# Altium schematic symbol library 集成块.SchLib: 135 symbols
Pins are listed as number, name and electrical type; pins without a type are passive.

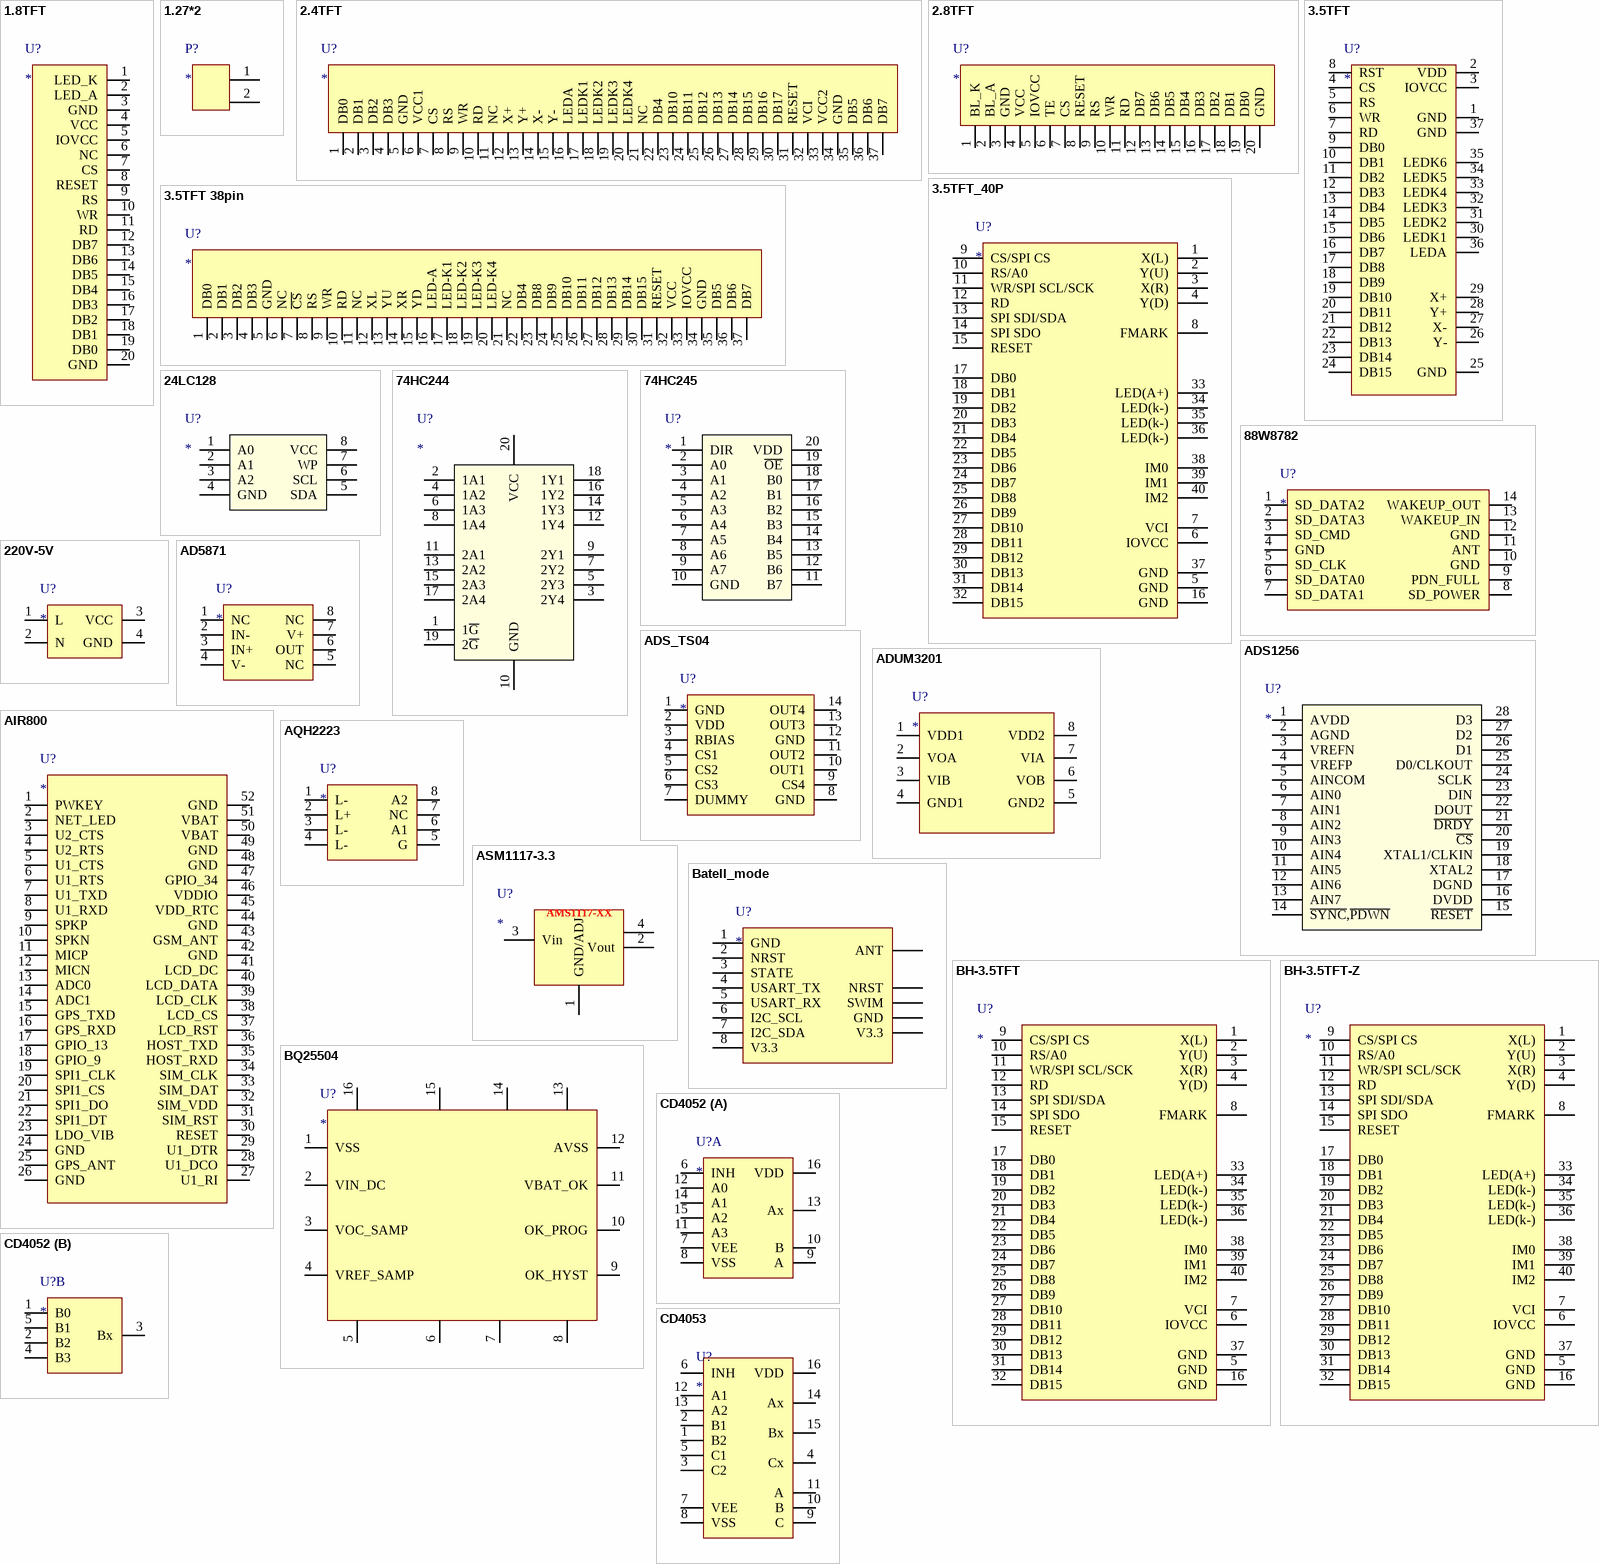
[diagram p0: symbols 1.8TFT to CD4053]

## 1.8TFT
designator U?
footprint 1.8TFT
pins: 1 LED_K, 2 LED_A, 3 GND, 4 VCC, 5 IOVCC, 6 NC, 7 CS, 8 RESET, 9 RS, 10 WR, 11 RD, 12 DB7, 13 DB6, 14 DB5, 15 DB4, 16 DB3, 17 DB2, 18 DB1, 19 DB0, 20 GND

## 1.27*2
designator P?
footprint 1.27-2
pins: 1, 2

## 2.4TFT
designator U?
footprint 2.4TFT
pins: 1 DB0, 2 DB1, 3 DB2, 4 DB3, 5 GND, 6 VCC1, 7 CS, 8 RS, 9 WR, 10 RD, 11 NC, 12 X+, 13 Y+, 14 X-, 15 Y-, 16 LEDA, 17 LEDK1, 18 LEDK2, 19 LEDK3, 20 LEDK4, 21 NC, 22 DB4, 23 DB10, 24 DB11, 25 DB12, 26 DB13, 27 DB14, 28 DB15, 29 DB16, 30 DB17, 31 RESET, 32 VCI, 33 VCC2, 34 GND, 35 DB5, 36 DB6, 37 DB7

## 2.8TFT
designator U?
footprint 2.8TFT
pins: 1 BL_K, 2 BL_A, 3 GND, 4 VCC, 5 IOVCC, 6 TE, 7 CS, 8 RESET, 9 RS, 10 WR, 11 RD, 12 DB7, 13 DB6, 14 DB5, 15 DB4, 16 DB3, 17 DB2, 18 DB1, 19 DB0, 20 GND

## 3.5TFT
designator U?
pins: 1 GND, 2 VDD, 3 IOVCC, 4 CS, 5 RS, 6 WR, 7 RD, 8 RST, 9 DB0, 10 DB1, 11 DB2, 12 DB3, 13 DB4, 14 DB5, 15 DB6, 16 DB7, 17 DB8, 18 DB9, 19 DB10, 20 DB11, 21 DB12, 22 DB13, 23 DB14, 24 DB15, 25 GND, 26 Y-, 27 X-, 28 Y+, 29 X+, 30 LEDK1, 31 LEDK2, 32 LEDK3, 33 LEDK4, 34 LEDK5, 35 LEDK6, 36 LEDA, 37 GND

## 3.5TFT 38pin
designator U?
footprint 3.5TFT-38PIN
pins: 1 DB0, 2 DB1, 3 DB2, 4 DB3, 5 GND, 6 NC, 7 ~{CS}, 8 RS, 9 WR, 10 RD, 11 NC, 12 XL, 13 YU, 14 XR, 15 YD, 16 LED-A, 17 LED-K1, 18 LED-K2, 19 LED-K3, 20 LED-K4, 21 NC, 22 DB4, 23 DB8, 24 DB9, 25 DB10, 26 DB11, 27 DB12, 28 DB13, 29 DB14, 30 DB15, 31 RESET, 32 VCC, 33 IOVCC, 34 GND, 35 DB5, 36 DB6, 37 DB7

## 3.5TFT_40P
designator U?
footprint FPC-40-0.5MM
pins: 1 X(L), 2 Y(U), 3 X(R), 4 Y(D), 5 GND, 6 IOVCC, 7 VCI, 8 FMARK, 9 CS/SPI CS, 10 RS/A0, 11 WR/SPI SCL/SCK, 12 RD, 13 SPI SDI/SDA, 14 SPI SDO, 15 RESET, 16 GND, 17 DB0, 18 DB1, 19 DB2, 20 DB3, 21 DB4, 22 DB5, 23 DB6, 24 DB7, 25 DB8, 26 DB9, 27 DB10, 28 DB11, 29 DB12, 30 DB13, 31 DB14, 32 DB15, 33 LED(A+), 34 LED(k-), 35 LED(k-), 36 LED(k-), 37 GND, 38 IM0, 39 IM1, 40 IM2

## 24LC128
designator U?
footprint SOP-8
pins: 1 A0, 2 A1, 3 A2, 4 GND, 5 SDA, 6 SCL, 7 WP, 8 VCC

## 74HC244
designator U?
footprint SOIC-20W
pins: 1 1~{G}, 2 1A1, 3 2Y4, 4 1A2, 5 2Y3, 6 1A3, 7 2Y2, 8 1A4, 9 2Y1, 10 GND, 11 2A1, 12 1Y4, 13 2A2, 14 1Y3, 15 2A3, 16 1Y2, 17 2A4, 18 1Y1, 19 2~{G}, 20 VCC

## 74HC245
designator U?
footprint SOIC-20W
pins: 1 DIR, 2 A0, 3 A1, 4 A2, 5 A3, 6 A4, 7 A5, 8 A6, 9 A7, 10 GND, 11 B7, 12 B6, 13 B5, 14 B4, 15 B3, 16 B2, 17 B1, 18 B0, 19 ~{OE}, 20 VDD

## 88W8782
designator U?
footprint 88W8782
pins: 1 SD_DATA2, 2 SD_DATA3, 3 SD_CMD, 4 GND, 5 SD_CLK, 6 SD_DATA0, 7 SD_DATA1, 8 SD_POWER, 9 PDN_FULL, 10 GND, 11 ANT, 12 GND, 13 WAKEUP_IN, 14 WAKEUP_OUT

## 220V-5V
designator U?
footprint 22V-5V
pins: 1 L, 2 N, 3 VCC, 4 GND

## AD5871
designator U?
footprint SOP-8
pins: 1 NC, 2 IN-, 3 IN+, 4 V-, 5 NC, 6 OUT, 7 V+, 8 NC

## ADS1256
designator U?
footprint SSOP-28
pins: 1 AVDD, 2 AGND, 3 VREFN, 4 VREFP, 5 AINCOM, 6 AIN0, 7 AIN1, 8 AIN2, 9 AIN3, 10 AIN4, 11 AIN5, 12 AIN6, 13 AIN7, 14 ~{SYNC},~{PDWN}, 15 ~{RESET}, 16 DVDD, 17 DGND, 18 XTAL2, 19 XTAL1/CLKIN, 20 ~{CS}, 21 ~{DRDY}, 22 DOUT, 23 DIN, 24 SCLK, 25 D0/CLKOUT, 26 D1, 27 D2, 28 D3

## ADS_TS04
designator U?
footprint SOP-14
pins: 1 GND, 2 VDD, 3 RBIAS, 4 CS1, 5 CS2, 6 CS3, 7 DUMMY, 8 GND, 9 CS4, 10 OUT1, 11 OUT2, 12 GND, 13 OUT3, 14 OUT4

## ADUM3201
designator U?
footprint SOP-8
pins: 1 VDD1, 2 VOA, 3 VIB, 4 GND1, 5 GND2, 6 VOB, 7 VIA, 8 VDD2

## AIR800
designator U?
footprint AIR800
pins: 1 PWKEY, 2 NET_LED, 3 U2_CTS, 4 U2_RTS, 5 U1_CTS, 6 U1_RTS, 7 U1_TXD, 8 U1_RXD, 9 SPKP, 10 SPKN, 11 MICP, 12 MICN, 13 ADC0, 14 ADC1, 15 GPS_TXD, 16 GPS_RXD, 17 GPIO_13, 18 GPIO_9, 19 SPI1_CLK, 20 SPI1_CS, 21 SPI1_DO, 22 SPI1_DT, 23 LDO_VIB, 24 GND, 25 GPS_ANT, 26 GND, 27 U1_RI, 28 U1_DCO, 29 U1_DTR, 30 RESET, 31 SIM_RST, 32 SIM_VDD, 33 SIM_DAT, 34 SIM_CLK, 35 HOST_RXD, 36 HOST_TXD, 37 LCD_RST, 38 LCD_CS, 39 LCD_CLK, 40 LCD_DATA, 41 LCD_DC, 42 GND, 43 GSM_ANT, 44 GND, 45 VDD_RTC, 46 VDDIO, 47 GPIO_34, 48 GND, 49 GND, 50 VBAT, 51 VBAT, 52 GND

## AQH2223
designator U?
footprint DIP-8
pins: 1 L-, 2 L+, 3 L-, 4 L-, 5 G, 6 A1, 7 NC, 8 A2

## ASM1117-3.3
designator U?
footprint 1117-3.3
pins: 1 GND/ADJ, 2 Vout, 3 Vin, 4
text: AMS1117-XX

## Batell_mode
designator U?
footprint Batell
pins: 1 GND, 2 NRST, 3 STATE, 4 USART_TX, 5 USART_RX, 6 I2C_SCL, 7 I2C_SDA, 8 V3.3, ANT, GND, NRST, SWIM, V3.3

## BH-3.5TFT
designator U?
footprint BH-3.5TFT
pins: 1 X(L), 2 Y(U), 3 X(R), 4 Y(D), 5 GND, 6 IOVCC, 7 VCI, 8 FMARK, 9 CS/SPI CS, 10 RS/A0, 11 WR/SPI SCL/SCK, 12 RD, 13 SPI SDI/SDA, 14 SPI SDO, 15 RESET, 16 GND, 17 DB0, 18 DB1, 19 DB2, 20 DB3, 21 DB4, 22 DB5, 23 DB6, 24 DB7, 25 DB8, 26 DB9, 27 DB10, 28 DB11, 29 DB12, 30 DB13, 31 DB14, 32 DB15, 33 LED(A+), 34 LED(k-), 35 LED(k-), 36 LED(k-), 37 GND, 38 IM0, 39 IM1, 40 IM2

## BH-3.5TFT-Z
designator U?
footprint BH-3.5TFT-Z
pins: 1 X(L), 2 Y(U), 3 X(R), 4 Y(D), 5 GND, 6 IOVCC, 7 VCI, 8 FMARK, 9 CS/SPI CS, 10 RS/A0, 11 WR/SPI SCL/SCK, 12 RD, 13 SPI SDI/SDA, 14 SPI SDO, 15 RESET, 16 GND, 17 DB0, 18 DB1, 19 DB2, 20 DB3, 21 DB4, 22 DB5, 23 DB6, 24 DB7, 25 DB8, 26 DB9, 27 DB10, 28 DB11, 29 DB12, 30 DB13, 31 DB14, 32 DB15, 33 LED(A+), 34 LED(k-), 35 LED(k-), 36 LED(k-), 37 GND, 38 IM0, 39 IM1, 40 IM2

## BQ25504
designator U?
footprint QFN-16
pins: 1 VSS, 2 VIN_DC, 3 VOC_SAMP, 4 VREF_SAMP, 5 OT_PROG, 6 VBA_OV, 7 VRDIV, 8 VBAT_UV, 9 OK_HYST, 10 OK_PROG, 11 VBAT_OK, 12 AVSS, 13 VSS, 14 VBAT, 15 VSTOR, 16 LBST

## CD4052
designator U?
footprint SOIC-16
part A pins: 6 INH, 7 VEE, 8 VSS, 9 A, 10 B, 11 A3, 12 A0, 13 Ax, 14 A1, 15 A2, 16 VDD
part B pins: 1 B0, 2 B2, 3 Bx, 4 B3, 5 B1

## CD4053
designator U?
footprint SOIC-16
pins: 1 B2, 2 B1, 3 C2, 4 Cx, 5 C1, 6 INH, 7 VEE, 8 VSS, 9 C, 10 B, 11 A, 12 A1, 13 A2, 14 Ax, 15 Bx, 16 VDD

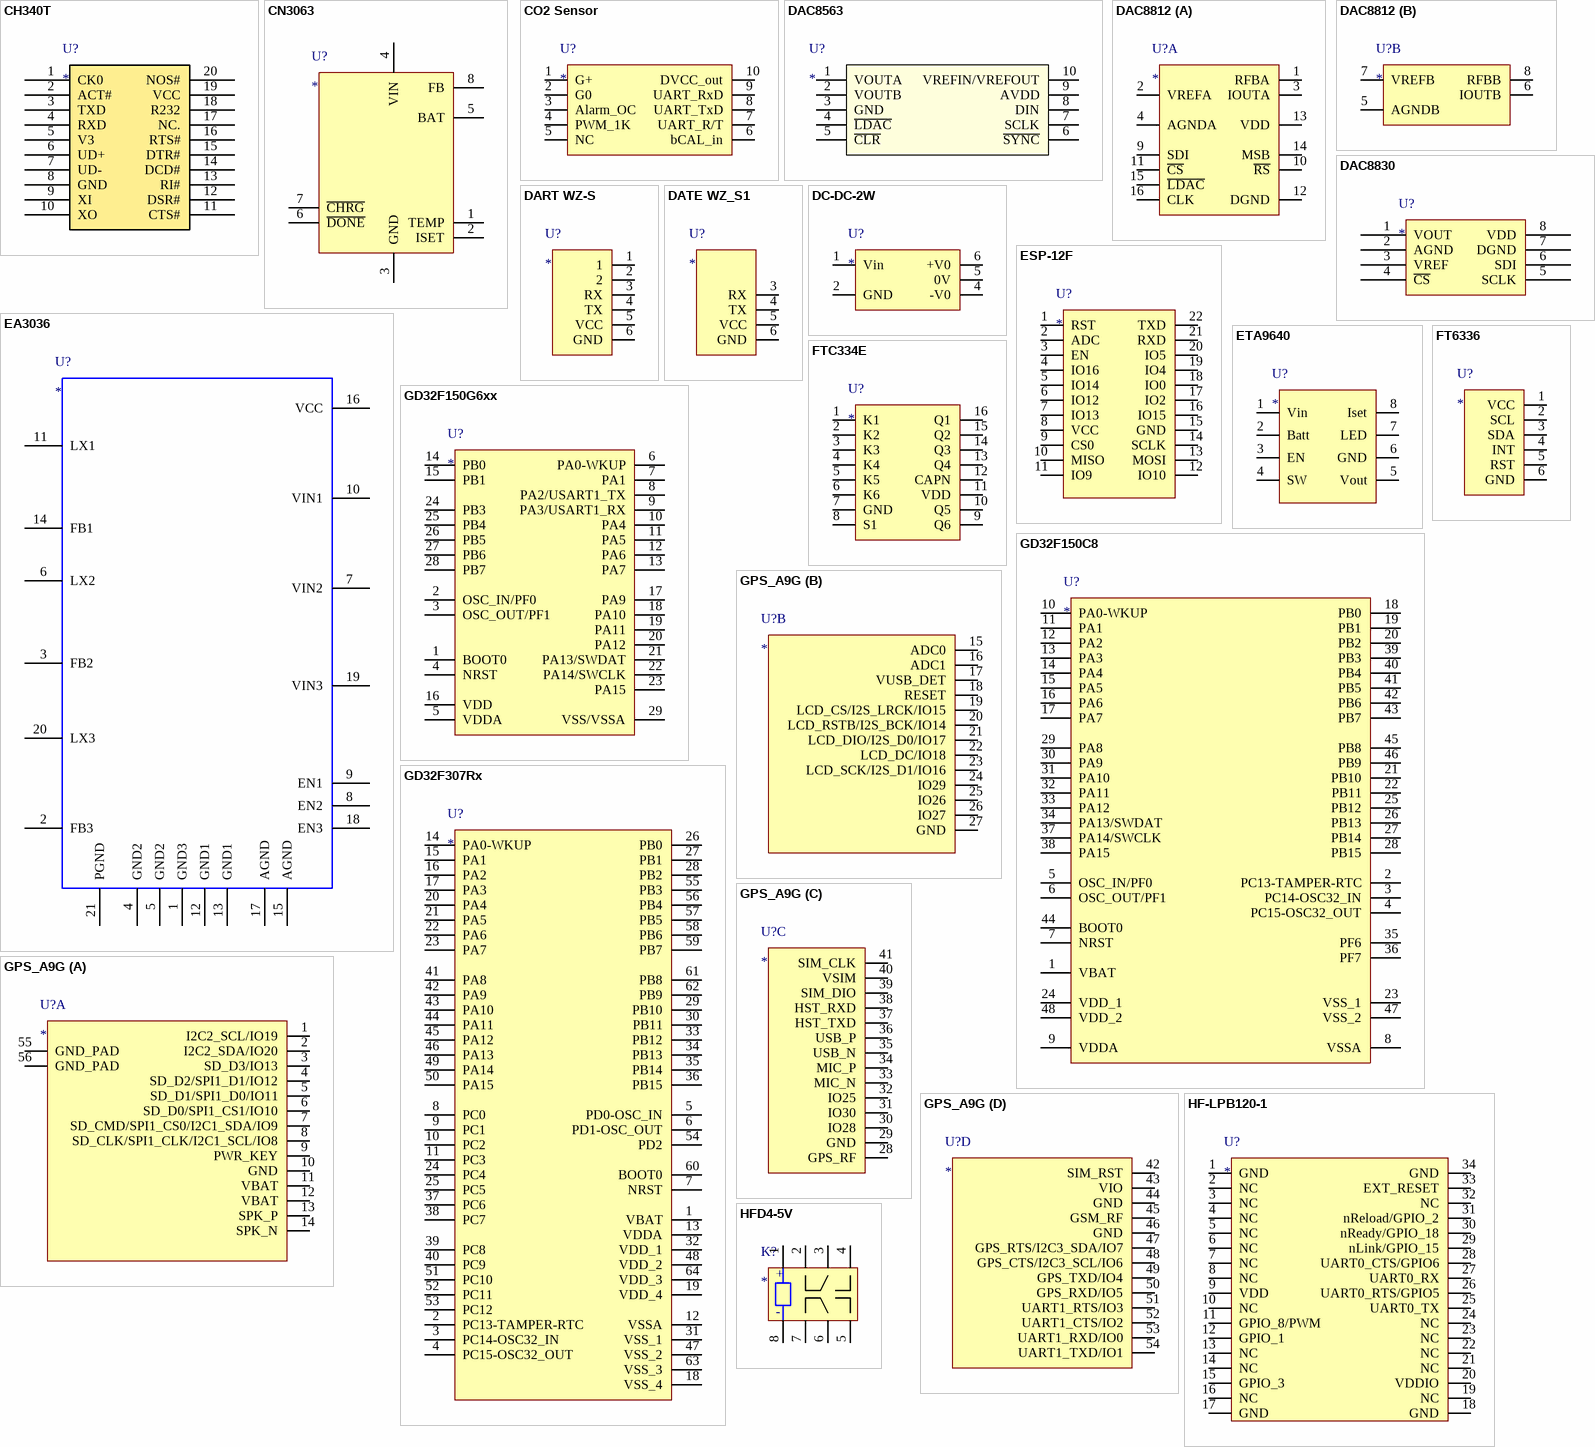
[diagram p1: symbols CH340T to HFD4-5V]

## CH340T
designator U?
footprint SSOP-20
pins: 1 CK0, 2 ACT#, 3 TXD, 4 RXD, 5 V3, 6 UD+, 7 UD-, 8 GND, 9 XI, 10 XO, 11 CTS#, 12 DSR#, 13 RI#, 14 DCD#, 15 DTR#, 16 RTS#, 17 NC., 18 R232, 19 VCC, 20 NOS#

## CN3063
designator U?
footprint SOP-8
pins: 1 TEMP, 2 ISET, 3 GND, 4 VIN, 5 BAT, 6 ~{DONE}, 7 ~{CHRG}, 8 FB

## CO2 Sensor
designator U?
footprint CO2 Sensor
footprint Model Name (Model Description)
footprint CO2_Sensor1
pins: 1 G+, 2 G0, 3 Alarm_OC, 4 PWM_1K, 5 NC, 6 bCAL_in, 7 UART_R/T, 8 UART_TxD, 9 UART_RxD, 10 DVCC_out

## DAC8563
designator U?
footprint SSOP-10
pins: 1 VOUTA, 2 VOUTB, 3 GND, 4 ~{LDAC}, 5 ~{CLR}, 6 ~{SYNC}, 7 SCLK, 8 DIN, 9 AVDD, 10 VREFIN/VREFOUT

## DAC8812
designator U?
footprint TSSOP-16
part A pins: 1 RFBA, 2 VREFA, 3 IOUTA, 4 AGNDA, 9 SDI, 10 ~{RS}, 11 ~{CS}, 12 DGND, 13 VDD, 14 MSB, 15 ~{LDAC}, 16 CLK
part B pins: 5 AGNDB, 6 IOUTB, 7 VREFB, 8 RFBB

## DAC8830
designator U?
footprint SOP-8
pins: 1 VOUT, 2 AGND, 3 VREF, 4 ~{CS}, 5 SCLK, 6 SDI, 7 DGND, 8 VDD

## DART WZ-S
designator U?
footprint DART WZ-S
pins: 1, 2, 3 RX, 4 TX, 5 VCC, 6 GND

## DATE WZ_S1
designator U?
footprint DATE WZ_S1
pins: 3 RX, 4 TX, 5 VCC, 6 GND

## DC-DC-2W
designator U?
footprint DC-DC-2W
pins: 1 Vin, 2 GND, 4 -V0, 5 0V, 6 +V0

## EA3036
designator U?
footprint QFN20-0.4mm
pins: 1 GND3, 2 FB3, 3 FB2, 4 GND2, 5 GND2, 6 LX2, 7 VIN2, 8 EN2, 9 EN1, 10 VIN1, 11 LX1, 12 GND1, 13 GND1, 14 FB1, 15 AGND, 16 VCC, 17 AGND, 18 EN3, 19 VIN3, 20 LX3, 21 PGND

## ESP-12F
designator U?
footprint ESP-12F
pins: 1 RST, 2 ADC, 3 EN, 4 IO16, 5 IO14, 6 IO12, 7 IO13, 8 VCC, 9 CS0, 10 MISO, 11 IO9, 12 IO10, 13 MOSI, 14 SCLK, 15 GND, 16 IO15, 17 IO2, 18 IO0, 19 IO4, 20 IO5, 21 RXD, 22 TXD

## ETA9640
designator U?
footprint SOP-8
pins: 1 Vin, 2 Batt, 3 EN, 4 SW, 5 Vout, 6 GND, 7 LED, 8 Iset

## FT6336
designator U?
footprint FPC0.5-6P
pins: 1 VCC, 2 SCL, 3 SDA, 4 INT, 5 RST, 6 GND

## FTC334E
designator U?
footprint SOP-16
pins: 1 K1, 2 K2, 3 K3, 4 K4, 5 K5, 6 K6, 7 GND, 8 S1, 9 Q6, 10 Q5, 11 VDD, 12 CAPN, 13 Q4, 14 Q3, 15 Q2, 16 Q1

## GD32F150C8
designator U?
footprint LQFP-48
pins: 1 VBAT, 2 PC13-TAMPER-RTC, 3 PC14-OSC32_IN, 4 PC15-OSC32_OUT, 5 OSC_IN/PF0, 6 OSC_OUT/PF1, 7 NRST, 8 VSSA, 9 VDDA, 10 PA0-WKUP, 11 PA1, 12 PA2, 13 PA3, 14 PA4, 15 PA5, 16 PA6, 17 PA7, 18 PB0, 19 PB1, 20 PB2, 21 PB10, 22 PB11, 23 VSS_1, 24 VDD_1, 25 PB12, 26 PB13, 27 PB14, 28 PB15, 29 PA8, 30 PA9, 31 PA10, 32 PA11, 33 PA12, 34 PA13/SWDAT, 35 PF6, 36 PF7, 37 PA14/SWCLK, 38 PA15, 39 PB3, 40 PB4, 41 PB5, 42 PB6, 43 PB7, 44 BOOT0, 45 PB8, 46 PB9, 47 VSS_2, 48 VDD_2

## GD32F150G6xx
designator U?
footprint QFN40P400X400X90_HS-29N
pins: 1 BOOT0, 2 OSC_IN/PF0, 3 OSC_OUT/PF1, 4 NRST, 5 VDDA, 6 PA0-WKUP, 7 PA1, 8 PA2/USART1_TX, 9 PA3/USART1_RX, 10 PA4, 11 PA5, 12 PA6, 13 PA7, 14 PB0, 15 PB1, 16 VDD, 17 PA9, 18 PA10, 19 PA11, 20 PA12, 21 PA13/SWDAT, 22 PA14/SWCLK, 23 PA15, 24 PB3, 25 PB4, 26 PB5, 27 PB6, 28 PB7, 29 VSS/VSSA

## GD32F307Rx
designator U?
footprint LQFP64-0.5mm
pins: 1 VBAT, 2 PC13-TAMPER-RTC, 3 PC14-OSC32_IN, 4 PC15-OSC32_OUT, 5 PD0-OSC_IN, 6 PD1-OSC_OUT, 7 NRST, 8 PC0, 9 PC1, 10 PC2, 11 PC3, 12 VSSA, 13 VDDA, 14 PA0-WKUP, 15 PA1, 16 PA2, 17 PA3, 18 VSS_4, 19 VDD_4, 20 PA4, 21 PA5, 22 PA6, 23 PA7, 24 PC4, 25 PC5, 26 PB0, 27 PB1, 28 PB2, 29 PB10, 30 PB11, 31 VSS_1, 32 VDD_1, 33 PB12, 34 PB13, 35 PB14, 36 PB15, 37 PC6, 38 PC7, 39 PC8, 40 PC9, 41 PA8, 42 PA9, 43 PA10, 44 PA11, 45 PA12, 46 PA13, 47 VSS_2, 48 VDD_2, 49 PA14, 50 PA15, 51 PC10, 52 PC11, 53 PC12, 54 PD2, 55 PB3, 56 PB4, 57 PB5, 58 PB6, 59 PB7, 60 BOOT0, 61 PB8, 62 PB9, 63 VSS_3, 64 VDD_3

## GPS_A9G
designator U?
part A pins: 1 I2C2_SCL/IO19, 2 I2C2_SDA/IO20, 3 SD_D3/IO13, 4 SD_D2/SPI1_D1/IO12, 5 SD_D1/SPI1_D0/IO11, 6 SD_D0/SPI1_CS1/IO10, 7 SD_CMD/SPI1_CS0/I2C1_SDA/IO9, 8 SD_CLK/SPI1_CLK/I2C1_SCL/IO8, 9 PWR_KEY, 10 GND, 11 VBAT, 12 VBAT, 13 SPK_P, 14 SPK_N, 55 GND_PAD, 56 GND_PAD
part B pins: 15 ADC0, 16 ADC1, 17 VUSB_DET, 18 RESET, 19 LCD_CS/I2S_LRCK/IO15, 20 LCD_RSTB/I2S_BCK/IO14, 21 LCD_DIO/I2S_D0/IO17, 22 LCD_DC/IO18, 23 LCD_SCK/I2S_D1/IO16, 24 IO29, 25 IO26, 26 IO27, 27 GND
part C pins: 28 GPS_RF, 29 GND, 30 IO28, 31 IO30, 32 IO25, 33 MIC_N, 34 MIC_P, 35 USB_N, 36 USB_P, 37 HST_TXD, 38 HST_RXD, 39 SIM_DIO, 40 VSIM, 41 SIM_CLK
part D pins: 42 SIM_RST, 43 VIO, 44 GND, 45 GSM_RF, 46 GND, 47 GPS_RTS/I2C3_SDA/IO7, 48 GPS_CTS/I2C3_SCL/IO6, 49 GPS_TXD/IO4, 50 GPS_RXD/IO5, 51 UART1_RTS/IO3, 52 UART1_CTS/IO2, 53 UART1_RXD/IO0, 54 UART1_TXD/IO1

## HF-LPB120-1
designator U?
footprint HF-LPB20-1
pins: 1 GND, 2 NC, 3 NC, 4 NC, 5 NC, 6 NC, 7 NC, 8 NC, 9 VDD, 10 NC, 11 GPIO_8/PWM, 12 GPIO_1, 13 NC, 14 NC, 15 GPIO_3, 16 NC, 17 GND, 18 GND, 19 NC, 20 VDDIO, 21 NC, 22 NC, 23 NC, 24 NC, 25 UART0_TX, 26 UART0_RTS/GPIO5, 27 UART0_RX, 28 UART0_CTS/GPIO6, 29 nLink/GPIO_15, 30 nReady/GPIO_18, 31 nReload/GPIO_2, 32 NC, 33 EXT_RESET, 34 GND

## HFD4-5V
designator K?
footprint HFD4-5V
pins: 1 +, 2, 3, 4, 5, 6, 7, 8
text: -

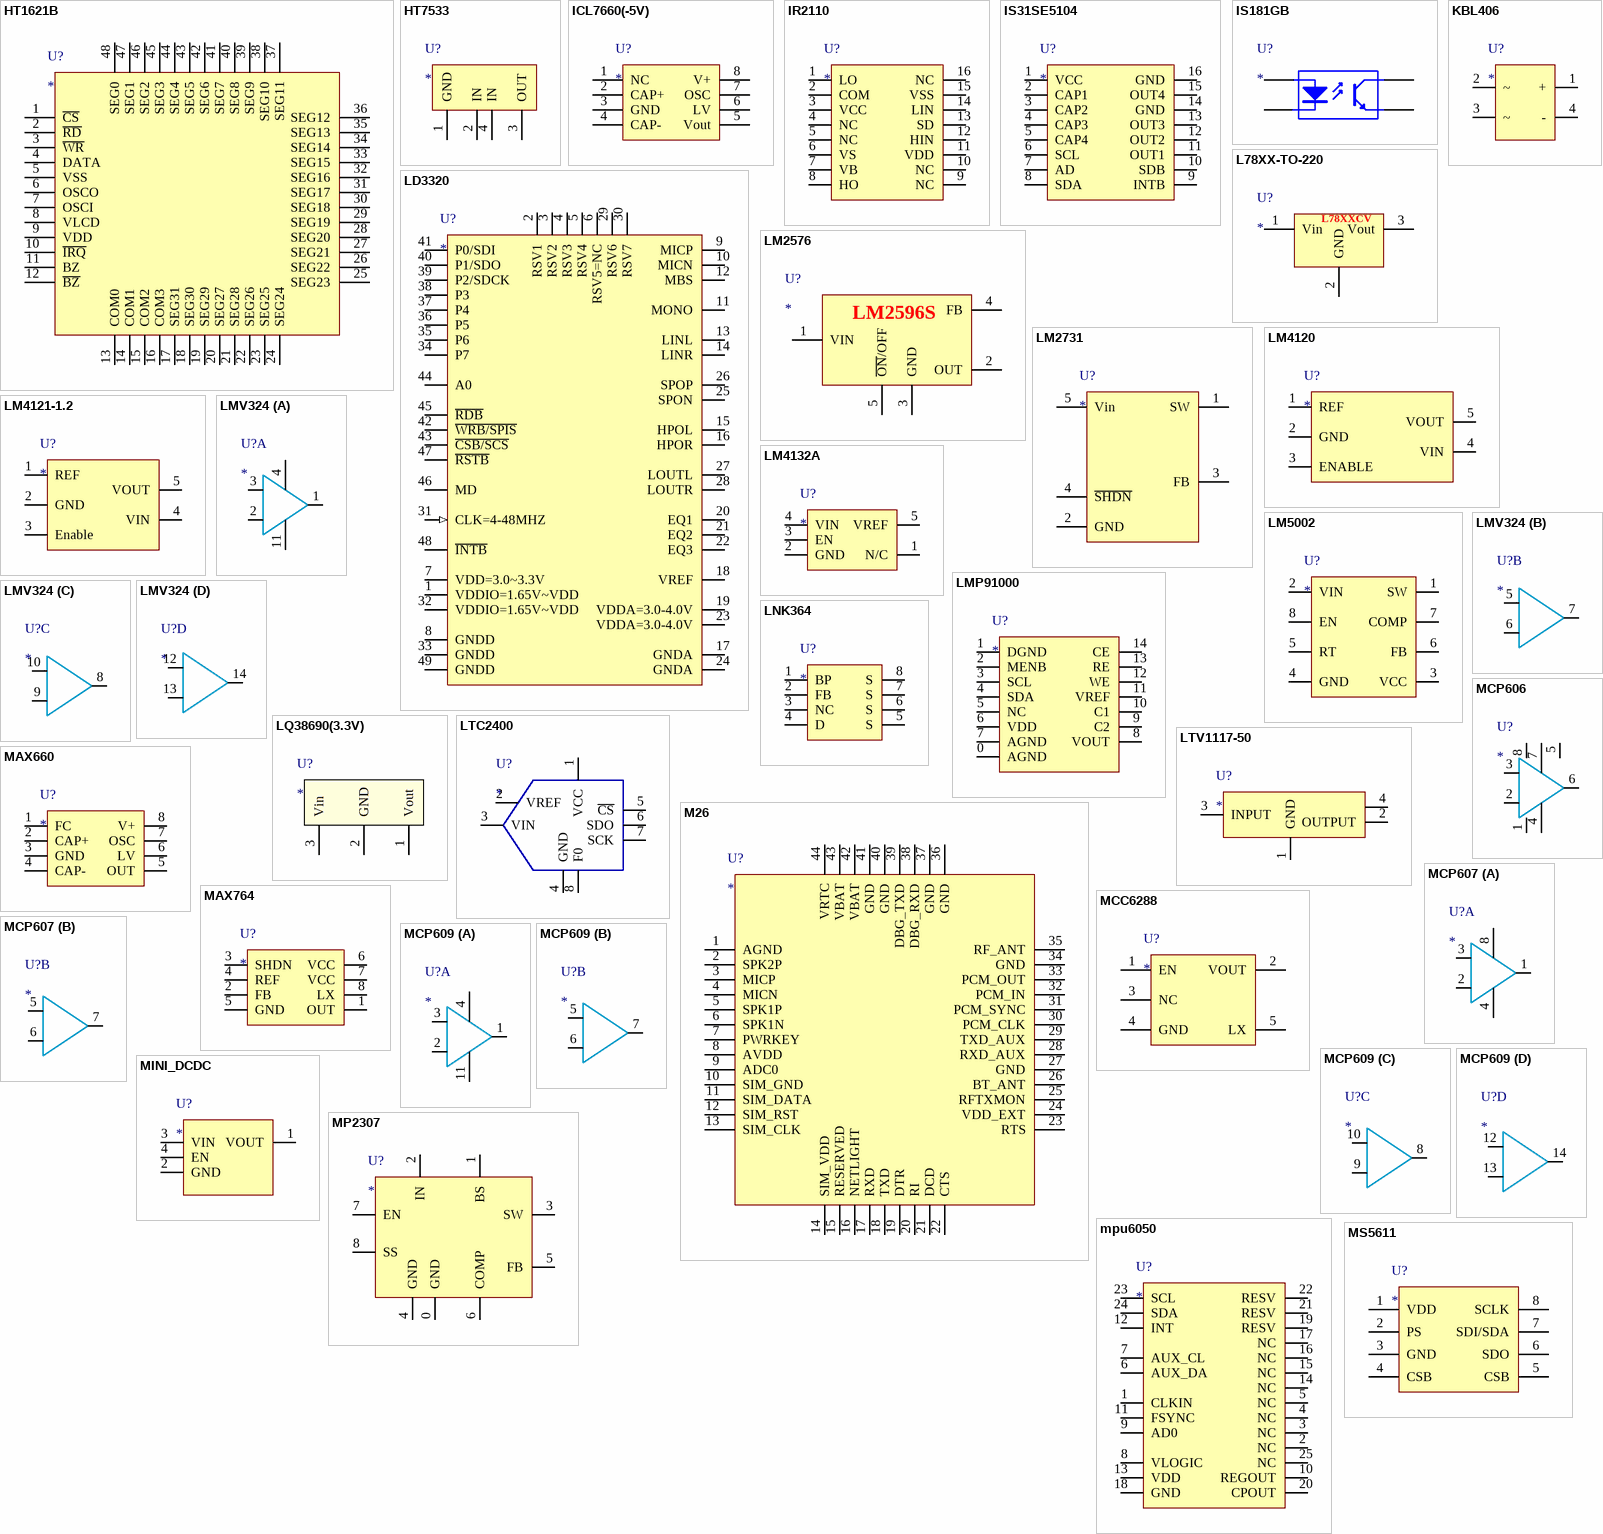
[diagram p2: symbols HT1621B to MS5611]

## HT1621B
designator U?
footprint LQFP-48
pins: 1 ~{CS}, 2 ~{RD}, 3 ~{WR}, 4 DATA, 5 VSS, 6 OSCO, 7 OSCI, 8 VLCD, 9 VDD, 10 ~{IRQ}, 11 BZ, 12 ~{BZ}, 13 COM0, 14 COM1, 15 COM2, 16 COM3, 17 SEG31, 18 SEG30, 19 SEG29, 20 SEG27, 21 SEG28, 22 SEG26, 23 SEG25, 24 SEG24, 25 SEG23, 26 SEG22, 27 SEG21, 28 SEG20, 29 SEG19, 30 SEG18, 31 SEG17, 32 SEG16, 33 SEG15, 34 SEG14, 35 SEG13, 36 SEG12, 37 SEG11, 38 SEG10, 39 SEG9, 40 SEG8, 41 SEG7, 42 SEG6, 43 SEG5, 44 SEG4, 45 SEG3, 46 SEG2, 47 SEG1, 48 SEG0

## HT7533
designator U?
footprint SOT-89
pins: 1 GND, 2 IN, 3 OUT, 4 IN

## ICL7660(-5V)
designator U?
footprint SOP-8
pins: 1 NC, 2 CAP+, 3 GND, 4 CAP-, 5 Vout, 6 LV, 7 OSC, 8 V+

## IR2110
designator U?
footprint SOIC-16W
pins: 1 LO, 2 COM, 3 VCC, 4 NC, 5 NC, 6 VS, 7 VB, 8 HO, 9 NC, 10 NC, 11 VDD, 12 HIN, 13 SD, 14 LIN, 15 VSS, 16 NC

## IS31SE5104
designator U?
footprint QFN-16
pins: 1 VCC, 2 CAP1, 3 CAP2, 4 CAP3, 5 CAP4, 6 SCL, 7 AD, 8 SDA, 9 INTB, 10 SDB, 11 OUT1, 12 OUT2, 13 OUT3, 14 GND, 15 OUT4, 16 GND

## IS181GB
designator U?
footprint SOP-4
pins: 1 A, 2 K, 3 E, 4 C

## KBL406
designator U?
footprint KBL410
pins: 1 +, 2 ~, 3 ~, 4 -

## L78XX-TO-220
designator U?
footprint TO-220
pins: 1 Vin, 2 GND, 3 Vout
text: L78XXCV

## LD3320
designator U?
footprint QFN-48P-0.5MM
pins: 1 VDDIO=1.65V~VDD, 2 RSV1, 3 RSV2, 4 RSV3, 5 RSV4, 6 RSV5=NC, 7 VDD=3.0~3.3V, 8 GNDD, 9 MICP, 10 MICN, 11 MONO, 12 MBS, 13 LINL, 14 LINR, 15 HPOL, 16 HPOR, 17 GNDA, 18 VREF, 19 VDDA=3.0-4.0V, 20 EQ1, 21 EQ2, 22 EQ3, 23 VDDA=3.0-4.0V, 24 GNDA, 25 SPON, 26 SPOP, 27 LOUTL, 28 LOUTR, 29 RSV6, 30 RSV7, 31 CLK=4-48MHZ (in), 32 VDDIO=1.65V~VDD, 33 GNDD, 34 P7, 35 P6, 36 P5, 37 P4, 38 P3, 39 P2/SDCK, 40 P1/SDO, 41 P0/SDI, 42 ~{WRB/SPIS}, 43 ~{CSB/SCS}, 44 A0, 45 ~{RDB}, 46 MD, 47 ~{RSTB}, 48 ~{INTB}, 49 GNDD

## LM2576
designator U?
footprint LM2576
pins: 1 VIN, 2 OUT, 3 GND, 4 FB, 5 ~{ON}/OFF
text: LM2596S

## LM2731
designator U?
footprint SOT23-5
pins: 1 SW, 2 GND, 3 FB, 4 ~{SHDN}, 5 Vin

## LM4120
designator U?
footprint SOT23-5
pins: 1 REF, 2 GND, 3 ENABLE, 4 VIN, 5 VOUT

## LM4121-1.2
designator U?
footprint SOT23-5
pins: 1 REF, 2 GND, 3 Enable, 4 VIN, 5 VOUT

## LM4132A
designator U?
footprint SOT23-5
pins: 1 N/C, 2 GND, 3 EN, 4 VIN, 5 VREF

## LM5002
designator U?
footprint SOP-8
pins: 1 SW, 2 VIN, 3 VCC, 4 GND, 5 RT, 6 FB, 7 COMP, 8 EN

## LMP91000
designator U?
footprint LMP91000
pins: 0 AGND, 1 DGND, 2 MENB, 3 SCL, 4 SDA, 5 NC, 6 VDD, 7 AGND, 8 VOUT, 9 C2, 10 C1, 11 VREF, 12 WE, 13 RE, 14 CE

## LMV324
designator U?
footprint SOP-14
part A pins: 1, 2, 3, 4, 11
part B pins: 5, 6, 7
part C pins: 8, 9, 10
part D pins: 12, 13, 14

## LNK364
designator U?
footprint SOP-8
pins: 1 BP, 2 FB, 3 NC, 4 D, 5 S, 6 S, 7 S, 8 S

## LQ38690(3.3V)
designator U?
footprint TO-252-3
pins: 1 Vout, 2 GND, 3 Vin

## LTC2400
designator U?
footprint SOP-8
pins: 1 VCC, 2 VREF, 3 VIN, 4 GND, 5 ~{CS}, 6 SDO, 7 SCK, 8 F0

## LTV1117-50
designator U?
footprint 1117-3.3
pins: 1 GND, 2 OUTPUT, 3 INPUT, 4

## M26
designator U?
footprint M26
pins: 1 AGND, 2 SPK2P, 3 MICP, 4 MICN, 5 SPK1P, 6 SPK1N, 7 PWRKEY, 8 AVDD, 9 ADC0, 10 SIM_GND, 11 SIM_DATA, 12 SIM_RST, 13 SIM_CLK, 14 SIM_VDD, 15 RESERVED, 16 NETLIGHT, 17 RXD, 18 TXD, 19 DTR, 20 RI, 21 DCD, 22 CTS, 23 RTS, 24 VDD_EXT, 25 RFTXMON, 26 BT_ANT, 27 GND, 28 RXD_AUX, 29 TXD_AUX, 30 PCM_CLK, 31 PCM_SYNC, 32 PCM_IN, 33 PCM_OUT, 34 GND, 35 RF_ANT, 36 GND, 37 GND, 38 DBG_RXD, 39 DBG_TXD, 40 GND, 41 GND, 42 VBAT, 43 VBAT, 44 VRTC

## MAX660
designator U?
footprint SOP-8
pins: 1 FC, 2 CAP+, 3 GND, 4 CAP-, 5 OUT, 6 LV, 7 OSC, 8 V+

## MAX764
designator U?
footprint SOP-8
pins: 1 OUT, 2 FB, 3 SHDN, 4 REF, 5 GND, 6 VCC, 7 VCC, 8 LX

## MCC6288
designator U?
footprint SOT23-5
pins: 1 EN, 2 VOUT, 3 NC, 4 GND, 5 LX

## MCP606
designator U?
footprint SOIC-8
pins: 1, 2, 3, 4, 5, 6, 7, 8

## MCP607
designator U?
footprint SOIC-8
part A pins: 1, 2, 3, 4, 8
part B pins: 5, 6, 7

## MCP609
designator U?
footprint SOIC-14
part A pins: 1, 2, 3, 4, 11
part B pins: 5, 6, 7
part C pins: 8, 9, 10
part D pins: 12, 13, 14

## MINI_DCDC
designator U?
footprint MINI_DCDC
pins: 1 VOUT, 2 GND, 3 VIN, 4 EN

## MP2307
designator U?
footprint SOIC-8 - duplicate
pins: 0 GND, 1 BS, 2 IN, 3 SW, 4 GND, 5 FB, 6 COMP, 7 EN, 8 SS

## mpu6050
designator U?
footprint QNF24
pins: 1 CLKIN, 2 NC, 3 NC, 4 NC, 5 NC, 6 AUX_DA, 7 AUX_CL, 8 VLOGIC, 9 AD0, 10 REGOUT, 11 FSYNC, 12 INT, 13 VDD, 14 NC, 15 NC, 16 NC, 17 NC, 18 GND, 19 RESV, 20 CPOUT, 21 RESV, 22 RESV, 23 SCL, 24 SDA, 25 NC

## MS5611
designator U?
footprint MS5611
pins: 1 VDD, 2 PS, 3 GND, 4 CSB, 5 CSB, 6 SDO, 7 SDI/SDA, 8 SCLK

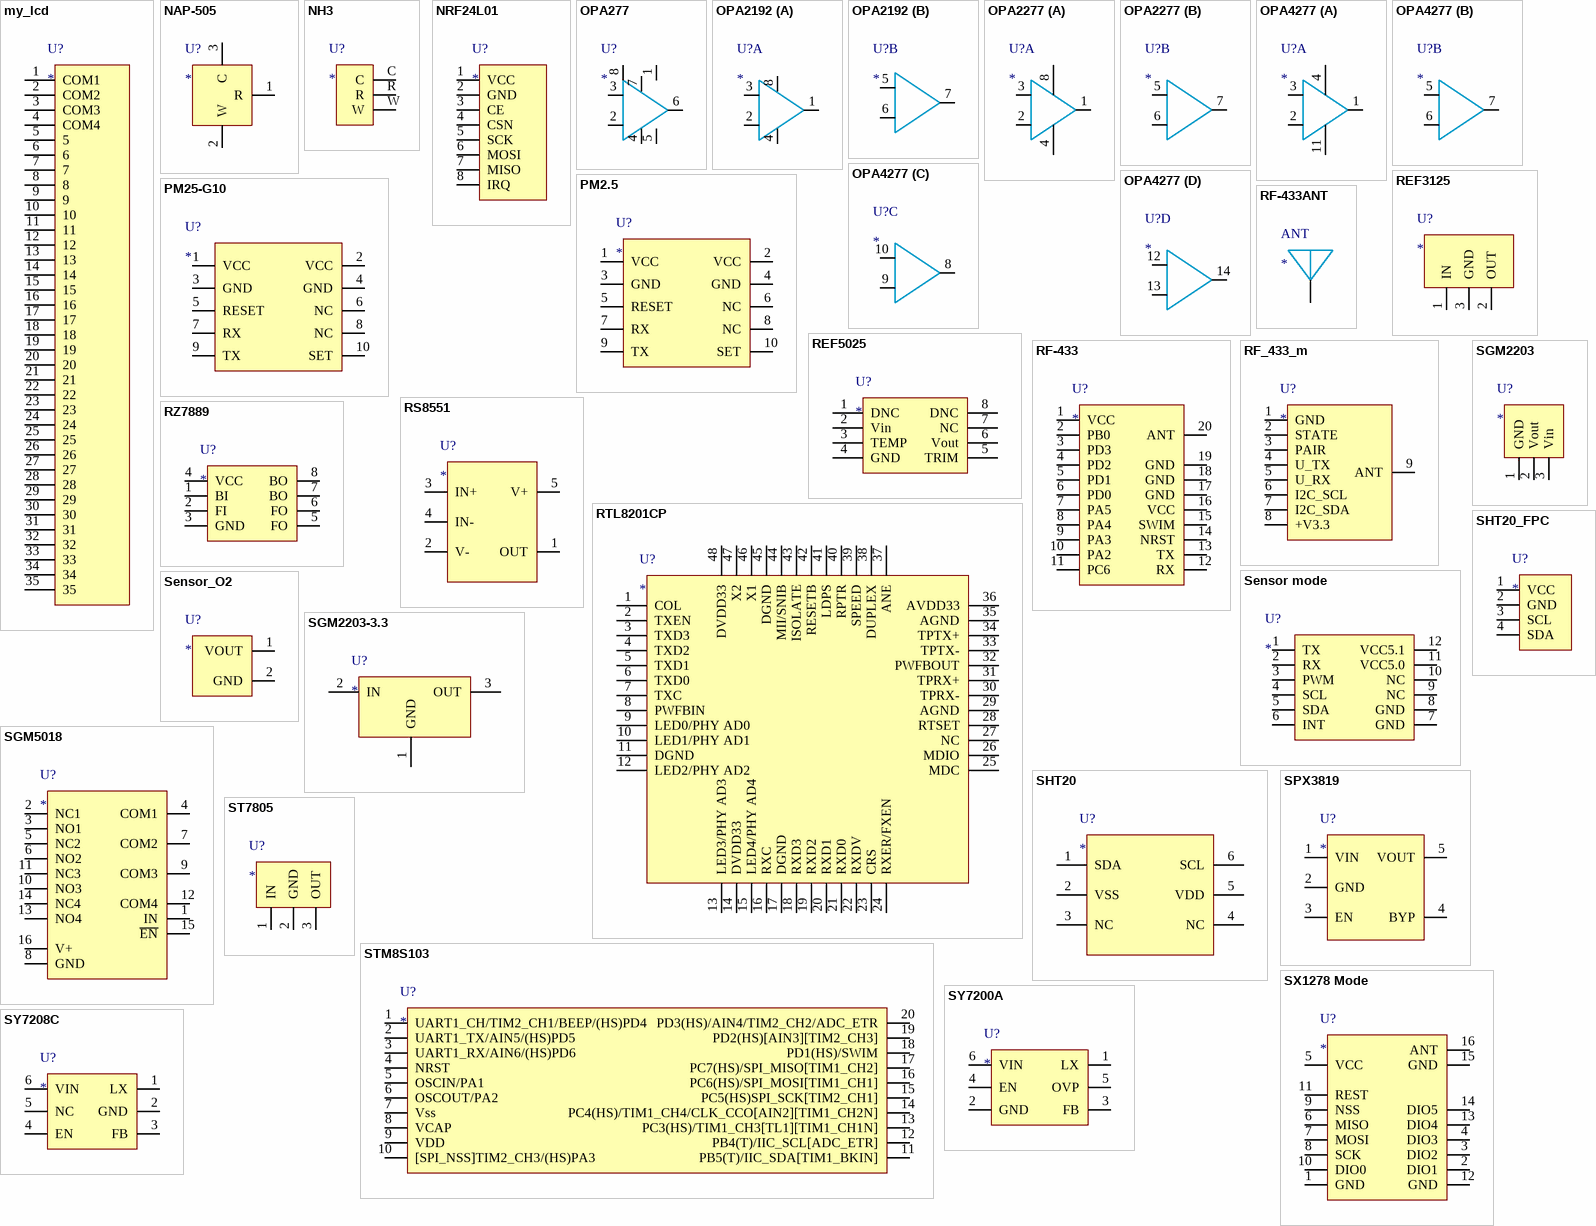
[diagram p3: symbols my_lcd to SY7208C]

## my_lcd
designator U?
footprint my_lcd
pins: 1 COM1, 2 COM2, 3 COM3, 4 COM4, 5, 6, 7, 8, 9, 10, 11, 12, 13, 14, 15, 16, 17, 18, 19, 20, 21, 22, 23, 24, 25, 26, 27, 28, 29, 30, 31, 32, 33, 34, 35

## NAP-505
designator U?
footprint NAP-505
pins: 1 R, 2 W, 3 C

## NH3
designator U?
footprint NH3
pins: C, R, W

## NRF24L01
designator U?
footprint NRF24L01
pins: 1 VCC, 2 GND, 3 CE, 4 CSN, 5 SCK, 6 MOSI, 7 MISO, 8 IRQ

## OPA277
designator U?
footprint SOIC-8
pins: 1, 2, 3, 4, 5, 6, 7, 8

## OPA2192
designator U?
footprint SOP-8
part A pins: 1, 2, 3, 4, 8
part B pins: 5, 6, 7

## OPA2277
designator U?
footprint SOIC-8
part A pins: 1, 2, 3, 4, 8
part B pins: 5, 6, 7

## OPA4277
designator U?
footprint SOIC-14
part A pins: 1, 2, 3, 4, 11
part B pins: 5, 6, 7
part C pins: 8, 9, 10
part D pins: 12, 13, 14

## PM2.5
designator U?
footprint PM2.5
footprint PM25-G10
footprint PM25-G10贴
pins: 1 VCC, 2 VCC, 3 GND, 4 GND, 5 RESET, 6 NC, 7 RX, 8 NC, 9 TX, 10 SET

## PM25-G10
designator U?
footprint PM25-G10
pins: 1 VCC, 2 VCC, 3 GND, 4 GND, 5 RESET, 6 NC, 7 RX, 8 NC, 9 TX, 10 SET

## REF3125
designator U?
footprint SOT-23
pins: 1 IN, 2 OUT, 3 GND

## REF5025
designator U?
footprint PDSO-G8
pins: 1 DNC, 2 Vin, 3 TEMP, 4 GND, 5 TRIM, 6 Vout, 7 NC, 8 DNC

## RF-433
designator U?
footprint RF-433
pins: 1 VCC, 2 PB0, 3 PD3, 4 PD2, 5 PD1, 6 PD0, 7 PA5, 8 PA4, 9 PA3, 10 PA2, 11 PC6, 12 RX, 13 TX, 14 NRST, 15 SWIM, 16 VCC, 17 GND, 18 GND, 19 GND, 20 ANT

## RF-433ANT
designator ANT
footprint ANT
pins: 1 ANT

## RF_433_m
designator U?
footprint RF_433_m
pins: 1 GND, 2 STATE, 3 PAIR, 4 U_TX, 5 U_RX, 6 I2C_SCL, 7 I2C_SDA, 8 +V3.3, 9 ANT

## RS8551
designator U?
footprint SOT23-5
pins: 1 OUT, 2 V-, 3 IN+, 4 IN-, 5 V+

## RTL8201CP
designator U?
footprint LQFP-48
pins: 1 COL, 2 TXEN, 3 TXD3, 4 TXD2, 5 TXD1, 6 TXD0, 7 TXC, 8 PWFBIN, 9 LED0/PHY AD0, 10 LED1/PHY AD1, 11 DGND, 12 LED2/PHY AD2, 13 LED3/PHY AD3, 14 DVDD33, 15 LED4/PHY AD4, 16 RXC, 17 DGND, 18 RXD3, 19 RXD2, 20 RXD1, 21 RXD0, 22 RXDV, 23 CRS, 24 RXER/FXEN, 25 MDC, 26 MDIO, 27 NC, 28 RTSET, 29 AGND, 30 TPRX-, 31 TPRX+, 32 PWFBOUT, 33 TPTX-, 34 TPTX+, 35 AGND, 36 AVDD33, 37 ANE, 38 DUPLEX, 39 SPEED, 40 RPTR, 41 LDPS, 42 RESETB, 43 ISOLATE, 44 MII/SNIB, 45 DGND, 46 X1, 47 X2, 48 DVDD33

## RZ7889
designator U?
footprint SOP-8
pins: 1 BI, 2 FI, 3 GND, 4 VCC, 5 FO, 6 FO, 7 BO, 8 BO

## Sensor mode
designator U?
footprint Sensor mode
pins: 1 TX, 2 RX, 3 PWM, 4 SCL, 5 SDA, 6 INT, 7 GND, 8 GND, 9 NC, 10 NC, 11 VCC5.0, 12 VCC5.1

## Sensor_O2
designator U?
footprint Sensor_O2
pins: 1 VOUT, 2 GND

## SGM2203
designator U?
footprint SOT23-3P
pins: 1 GND, 2 Vout, 3 Vin

## SGM2203-3.3
designator U?
footprint SGM2203-3.3
pins: 1 GND, 2 IN, 3 OUT

## SGM5018
designator U?
footprint TSSOP-16
pins: 1 IN, 2 NC1, 3 NO1, 4 COM1, 5 NC2, 6 NO2, 7 COM2, 8 GND, 9 COM3, 10 NO3, 11 NC3, 12 COM4, 13 NO4, 14 NC4, 15 ~{EN}, 16 V+

## SHT20
designator U?
footprint SHT20
pins: 1 SDA, 2 VSS, 3 NC, 4 NC, 5 VDD, 6 SCL

## SHT20_FPC
designator U?
footprint SHT20_FPC
pins: 1 VCC, 2 GND, 3 SCL, 4 SDA

## SPX3819
designator U?
footprint SOT23-5
pins: 1 VIN, 2 GND, 3 EN, 4 BYP, 5 VOUT

## ST7805
designator U?
footprint D2PAK
pins: 1 IN, 2 GND, 3 OUT

## STM8S103
designator U?
footprint TSSOP-20
pins: 1 UART1_CH/TIM2_CH1/BEEP/(HS)PD4, 2 UART1_TX/AIN5/(HS)PD5, 3 UART1_RX/AIN6/(HS)PD6, 4 NRST, 5 OSCIN/PA1, 6 OSCOUT/PA2, 7 Vss, 8 VCAP, 9 VDD, 10 [SPI_NSS]TIM2_CH3/(HS)PA3, 11 PB5(T)/IIC_SDA[TIM1_BKIN], 12 PB4(T)/IIC_SCL[ADC_ETR], 13 PC3(HS)/TIM1_CH3[TL1][TIM1_CH1N], 14 PC4(HS)/TIM1_CH4/CLK_CCO[AIN2][TIM1_CH2N], 15 PC5(HS)SPI_SCK[TIM2_CH1], 16 PC6(HS)/SPI_MOSI[TIM1_CH1], 17 PC7(HS)/SPI_MISO[TIM1_CH2], 18 PD1(HS)/SWIM, 19 PD2(HS)[AIN3][TIM2_CH3], 20 PD3(HS)/AIN4/TIM2_CH2/ADC_ETR

## SX1278 Mode
designator U?
footprint SX1278 Mode
pins: 1 GND, 2 DIO1, 3 DIO2, 4 DIO3, 5 VCC, 6 MISO, 7 MOSI, 8 SCK, 9 NSS, 10 DIO0, 11 REST, 12 GND, 13 DIO4, 14 DIO5, 15 GND, 16 ANT

## SY7200A
designator U?
footprint SOT23-6
pins: 1 LX, 2 GND, 3 FB, 4 EN, 5 OVP, 6 VIN

## SY7208C
designator U?
footprint SOT23-6
pins: 1 LX, 2 GND, 3 FB, 4 EN, 5 NC, 6 VIN

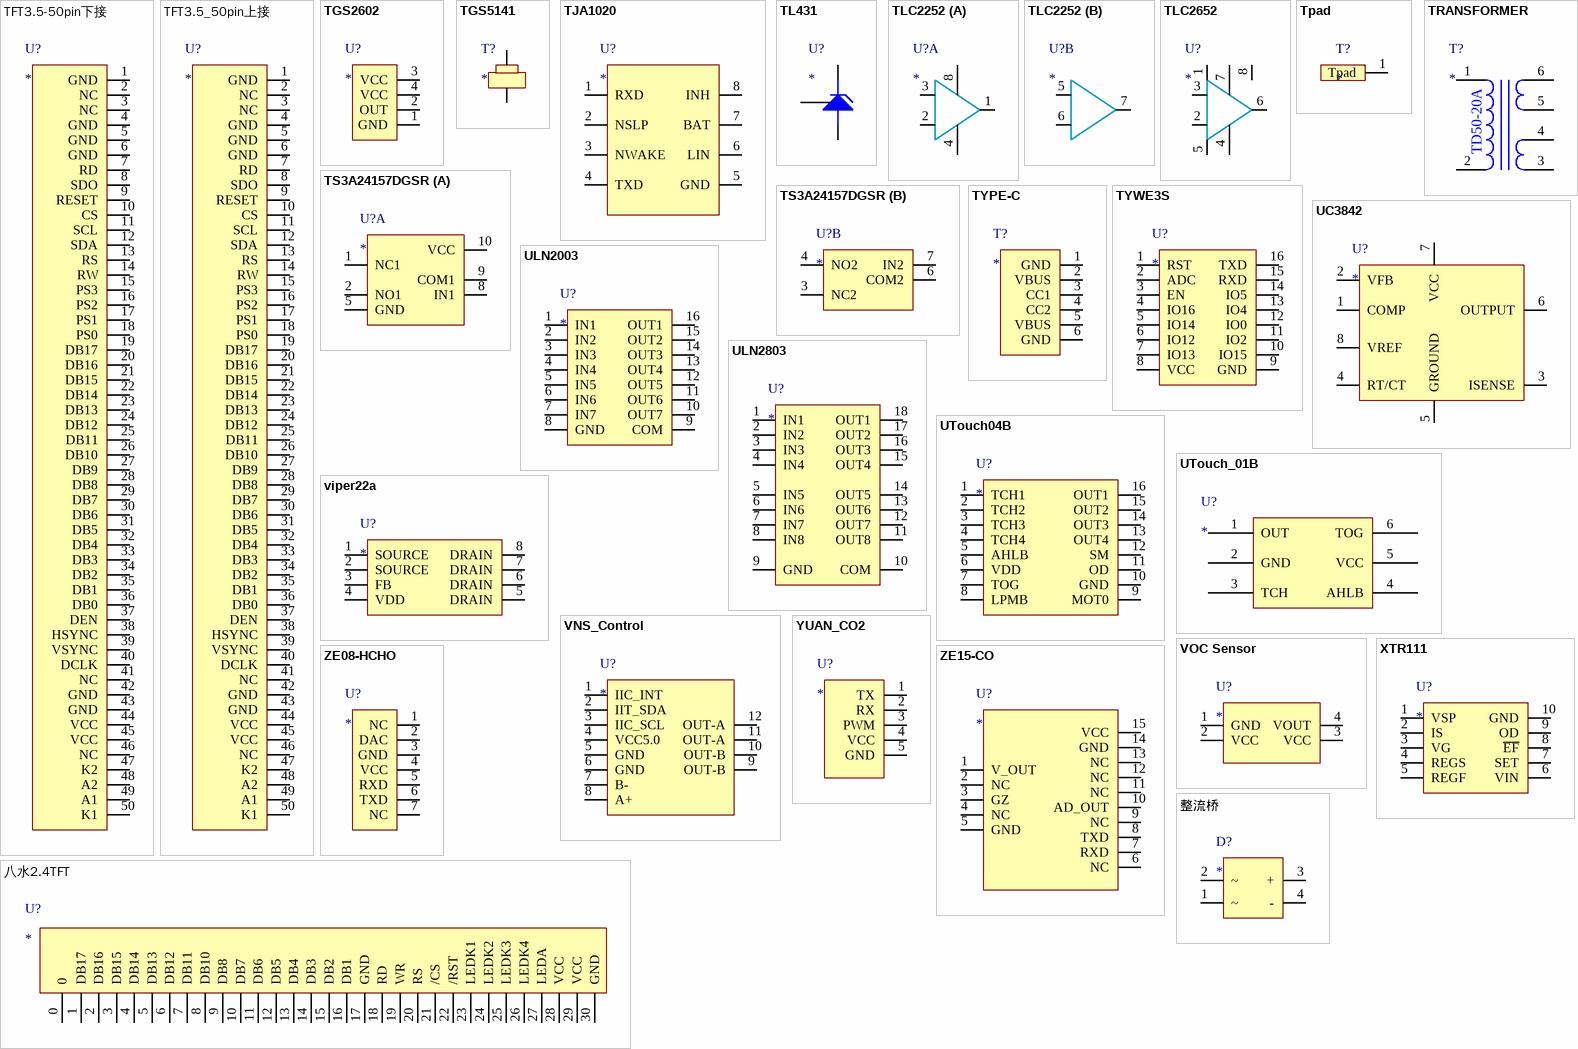
[diagram p4: symbols TFT3.5-50pin下接 to 整流桥]

## TFT3.5-50pin下接
designator U?
footprint TFT3.5-50pin下接
pins: 1 GND, 2 NC, 3 NC, 4 GND, 5 GND, 6 GND, 7 RD, 8 SDO, 9 RESET, 10 CS, 11 SCL, 12 SDA, 13 RS, 14 RW, 15 PS3, 16 PS2, 17 PS1, 18 PS0, 19 DB17, 20 DB16, 21 DB15, 22 DB14, 23 DB13, 24 DB12, 25 DB11, 26 DB10, 27 DB9, 28 DB8, 29 DB7, 30 DB6, 31 DB5, 32 DB4, 33 DB3, 34 DB2, 35 DB1, 36 DB0, 37 DEN, 38 HSYNC, 39 VSYNC, 40 DCLK, 41 NC, 42 GND, 43 GND, 44 VCC, 45 VCC, 46 NC, 47 K2, 48 A2, 49 A1, 50 K1

## TFT3.5_50pin上接
designator U?
footprint FTF3.5_50pin上接
pins: 1 GND, 2 NC, 3 NC, 4 GND, 5 GND, 6 GND, 7 RD, 8 SDO, 9 RESET, 10 CS, 11 SCL, 12 SDA, 13 RS, 14 RW, 15 PS3, 16 PS2, 17 PS1, 18 PS0, 19 DB17, 20 DB16, 21 DB15, 22 DB14, 23 DB13, 24 DB12, 25 DB11, 26 DB10, 27 DB9, 28 DB8, 29 DB7, 30 DB6, 31 DB5, 32 DB4, 33 DB3, 34 DB2, 35 DB1, 36 DB0, 37 DEN, 38 HSYNC, 39 VSYNC, 40 DCLK, 41 NC, 42 GND, 43 GND, 44 VCC, 45 VCC, 46 NC, 47 K2, 48 A2, 49 A1, 50 K1

## TGS2602
designator U?
footprint TGS2602
pins: 1 GND, 2 OUT, 3 VCC, 4 VCC

## TGS5141
designator T?
footprint TGS5141
pins: 1 GND, 2 GND

## TJA1020
designator U?
footprint SOP-8
pins: 1 RXD, 2 NSLP, 3 NWAKE, 4 TXD, 5 GND, 6 LIN, 7 BAT, 8 INH

## TL431
designator U?
footprint SOT-23
pins: 1 R, 2 K, 3 A

## TLC2252
designator U?
footprint SOP-8
part A pins: 1, 2, 3, 4, 8
part B pins: 5, 6, 7

## TLC2652
designator U?
footprint SOP-8
pins: 1, 2, 3, 4, 5, 6, 7, 8

## Tpad
designator T?
footprint Tpad
pins: 1 Tpad

## TRANSFORMER
designator T?
footprint TRANSFORMER
pins: 1 L/N (oe), 2 L/N (oe), 3 O2 (oe), 4 O2 (oe), 5 O1 (oe), 6 O1 (oe)
text: TD50-20A

## TS3A24157DGSR
designator U?
footprint SSOP-10
part A pins: 1 NC1, 2 NO1, 5 GND, 8 IN1, 9 COM1, 10 VCC
part B pins: 3 NC2, 4 NO2, 6 COM2, 7 IN2

## TYPE-C
designator T?
footprint TYPE-C-6P
pins: 1 GND, 2 VBUS, 3 CC1, 4 CC2, 5 VBUS, 6 GND

## TYWE3S
designator U?
footprint TYWE3S
pins: 1 RST, 2 ADC, 3 EN, 4 IO16, 5 IO14, 6 IO12, 7 IO13, 8 VCC, 9 GND, 10 IO15, 11 IO2, 12 IO0, 13 IO4, 14 IO5, 15 RXD, 16 TXD

## UC3842
designator U?
footprint SOP-8
pins: 1 COMP, 2 VFB, 3 ISENSE, 4 RT/CT, 5 GROUND, 6 OUTPUT, 7 VCC, 8 VREF

## ULN2003
designator U?
footprint SOP-16
pins: 1 IN1, 2 IN2, 3 IN3, 4 IN4, 5 IN5, 6 IN6, 7 IN7, 8 GND, 9 COM, 10 OUT7, 11 OUT6, 12 OUT5, 13 OUT4, 14 OUT3, 15 OUT2, 16 OUT1

## ULN2803
designator U?
footprint SOIC-18W
pins: 1 IN1, 2 IN2, 3 IN3, 4 IN4, 5 IN5, 6 IN6, 7 IN7, 8 IN8, 9 GND, 10 COM, 11 OUT8, 12 OUT7, 13 OUT6, 14 OUT5, 15 OUT4, 16 OUT3, 17 OUT2, 18 OUT1

## UTouch04B
designator U?
footprint SOP-16
pins: 1 TCH1, 2 TCH2, 3 TCH3, 4 TCH4, 5 AHLB, 6 VDD, 7 TOG, 8 LPMB, 9 MOT0, 10 GND, 11 OD, 12 SM, 13 OUT4, 14 OUT3, 15 OUT2, 16 OUT1

## UTouch_01B
designator U?
footprint SOT23-6
pins: 1 OUT, 2 GND, 3 TCH, 4 AHLB, 5 VCC, 6 TOG

## viper22a
designator U?
footprint DIP-8
pins: 1 SOURCE, 2 SOURCE, 3 FB, 4 VDD, 5 DRAIN, 6 DRAIN, 7 DRAIN, 8 DRAIN

## VNS_Control
designator U?
footprint VNS_Control
pins: 1 IIC_INT, 2 IIT_SDA, 3 IIC_SCL, 4 VCC5.0, 5 GND, 6 GND, 7 B-, 8 A+, 9 OUT-B, 10 OUT-B, 11 OUT-A, 12 OUT-A

## VOC Sensor
designator U?
footprint VOC Sensor
pins: 1 GND, 2 VCC, 3 VCC, 4 VOUT

## XTR111
designator U?
footprint SSOP-10
pins: 1 VSP, 2 IS, 3 VG, 4 REGS, 5 REGF, 6 VIN, 7 SET, 8 ~{EF}, 9 OD, 10 GND

## YUAN_CO2
designator U?
footprint YUAN_CO2
pins: 1 TX, 2 RX, 3 PWM, 4 VCC, 5 GND

## ZE08-HCHO
designator U?
footprint ZE08-HCHO
pins: 1 NC, 2 DAC, 3 GND, 4 VCC, 5 RXD, 6 TXD, 7 NC

## ZE15-CO
designator U?
footprint ZE15_CO
pins: 1 V_OUT, 2 NC, 3 GZ, 4 NC, 5 GND, 6 NC, 7 RXD, 8 TXD, 9 NC, 10 AD_OUT, 11 NC, 12 NC, 13 NC, 14 GND, 15 VCC

## 八水2.4TFT
designator U?
footprint 八水2.4TFT
pins: 0, 1 DB17, 2 DB16, 3 DB15, 4 DB14, 5 DB13, 6 DB12, 7 DB11, 8 DB10, 9 DB8, 10 DB7, 11 DB6, 12 DB5, 13 DB4, 14 DB3, 15 DB2, 16 DB1, 17 GND, 18 RD, 19 WR, 20 RS, 21 /CS, 22 /RST, 23 LEDK1, 24 LEDK2, 25 LEDK3, 26 LEDK4, 27 LEDA, 28 VCC, 29 VCC, 30 GND

## 整流桥
designator D?
footprint 整流桥
pins: 1 ~, 2 ~, 3 +, 4 -